# Altium footprint library MPU9250.PcbLib: 2 footprints
Each footprint in its own frame and in the unit in brackets; x right, y up, seen from the top. Pads: shape width x height; smd on the part's side, far side on the other; paste and mask are expansions set on the pad; w line width, h text height; cw(c..) or ccw(c..) is an arc to the next point about the centre after c.
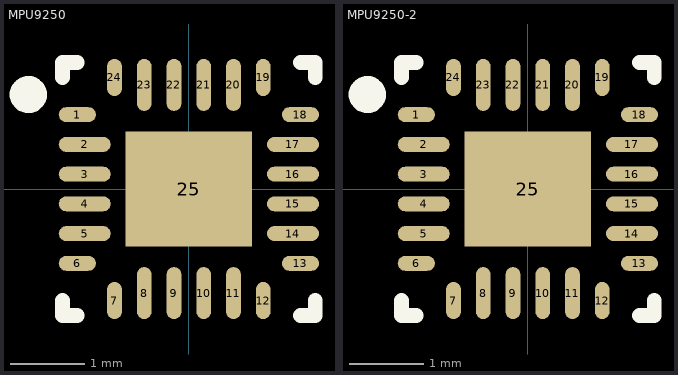
[diagram p0: the footprints below, top view; thin cyan lines are the x and y axes]

## MPU9250 [mm] "MPU9250"
height 1.05
pads (25):
  oval 0.5x0.2 smd: 1(-1.5,1) 6(-1.5,-1) 13(1.5,-1) 18(1.5,1)
  oval 0.7x0.2 smd: 2(-1.4,0.6) 3(-1.4,0.2) 4(-1.4,-0.2) 5(-1.4,-0.6) 14(1.4,-0.6) 15(1.4,-0.2) 16(1.4,0.2) 17(1.4,0.6)
  oval 0.2x0.5 smd: 7(-1,-1.5) 12(1,-1.5) 19(1,1.5) 24(-1,1.5)
  oval 0.2x0.7 smd: 8(-0.6,-1.4) 9(-0.2,-1.4) 10(0.2,-1.4) 11(0.6,-1.4) 20(0.6,1.4) 21(0.2,1.4) 22(-0.2,1.4) 23(-0.6,1.4)
  rect 1.7x1.54 smd: 25(0,0)
Top Overlay:
  circle w0.25: c-2.159,1.27 r0.125
  lines w0.2: -1.7,-1.5 -1.7,-1.7 -1.5,-1.7 ; -1.7,1.5 -1.7,1.7 -1.5,1.7 ; 1.5,-1.7 1.7,-1.7 1.7,-1.5 ; 1.5,1.7 1.7,1.7 1.7,1.5

## MPU9250-2 [mm] "MPU9250"
height 1.05
pads (25):
  oval 0.5x0.2 smd: 1(-1.5,1) 6(-1.5,-1) 13(1.5,-1) 18(1.5,1)
  oval 0.7x0.2 smd: 2(-1.4,0.6) 3(-1.4,0.2) 4(-1.4,-0.2) 5(-1.4,-0.6) 14(1.4,-0.6) 15(1.4,-0.2) 16(1.4,0.2) 17(1.4,0.6)
  oval 0.2x0.5 smd: 7(-1,-1.5) 12(1,-1.5) 19(1,1.5) 24(-1,1.5)
  oval 0.2x0.7 smd: 8(-0.6,-1.4) 9(-0.2,-1.4) 10(0.2,-1.4) 11(0.6,-1.4) 20(0.6,1.4) 21(0.2,1.4) 22(-0.2,1.4) 23(-0.6,1.4)
  rect 1.7x1.54 smd: 25(0,0)
Top Overlay:
  circle w0.25: c-2.159,1.27 r0.125
  lines w0.2: -1.7,-1.5 -1.7,-1.7 -1.5,-1.7 ; -1.7,1.5 -1.7,1.7 -1.5,1.7 ; 1.5,-1.7 1.7,-1.7 1.7,-1.5 ; 1.5,1.7 1.7,1.7 1.7,1.5
3D body "MPU9250.STEP": height 1.05, standoff 0, extent -1.51,-1.51 1.51,1.51